# Altium schematic symbol library iv_leds.SchLib: 2 symbols
Pins are listed as number, name and electrical type; pins without a type are passive.

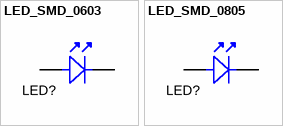
[diagram p0: symbols LED_SMD_0603 to LED_SMD_0805]

## LED_SMD_0603
designator LED?, comment LED SMD  (value not drawn)
Led
footprint LED-0603
pins: A, K

## LED_SMD_0805
designator LED?, comment LED SMD  (value not drawn)
Led
footprint LED-0805
pins: A, K